# EAGLE library part SMS-409F (library SamacSys_Parts)
EMI Gaskets, Sheets, Absorbers & Shielding .728 x 1.156 x .276 SHIELD FRAME Source: Datasheet <https://leadertechinc.com/wp-content/uploads/2016/04/SMS-409-REV-A.pdf>
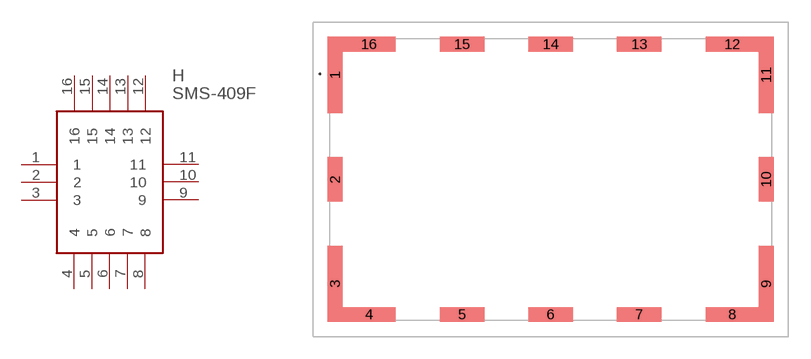
[diagram p1: symbol with the pads of SMS409F; footprint SMS409F]

Designator prefix H

## SMS-409F (DESCRIPTION: EMI Gaskets, Sheets, Absorbers & Shielding .728 x 1.156 x .276 SHIELD FRAME; HEIGHT: 7.1374mm; MANUFACTURER_NAME: Leader Tech Inc.; MANUFACTURER_PART_NUMBER: SMS-409F; MOUSER_PART_NUMBER: 861-SMS-409F; MOUSER_PRICE-STOCK: https://www.mouser.co.uk/ProductDetail/LeaderTech/SMS-409F?qs=Em4Ro3wiPJgc%2FfAAERmXkQ%3D%3D)  [SMS409F]
1  1
2  2
3  3
4  4
5  5
6  6
7  7
8  8
9  9
10  10
11  11
12  12
13  13
14  14
15  15
16  16

## Footprint SMS409F (pad centres in mm)
SMS-409F-1
smd 0.99 x 5.14: 1 -14.58,7.07; 3 -14.58,-7.07; 9 14.58,-7.07; 11 14.58,7.07
smd 0.99 x 3: 2 -14.58,0; 10 14.58,0
smd 3.59 x 0.99: 4 -12.29,-9.145; 8 12.29,-9.145; 12 12.29,9.145; 16 -12.29,9.145
smd 3 x 0.99: 5 -5.995,-9.145; 7 5.995,-9.145; 13 5.995,9.145; 15 -5.995,9.145
smd 2.99 x 0.99: 6 0,-9.145; 14 0,9.145